# Altium integrated library TSW-103-07-F-S.IntLib: 1 symbol
Pins are listed as number, name and electrical type; pins without a type are passive.

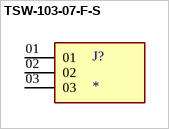
[diagram p0: symbol TSW-103-07-F-S]

## TSW-103-07-F-S
designator J?
MP: TSW-103-07-F-S; MF: Samtec; Package: None; Price: None; Availability: Unavailable; Value: *
footprint SAMTEC_TSW-103-07-F-S
pins: 01, 02, 03